# Altium schematic symbol library PCB_Project.SCHLIB: 7 symbols
Pins are listed as number, name and electrical type; pins without a type are passive.

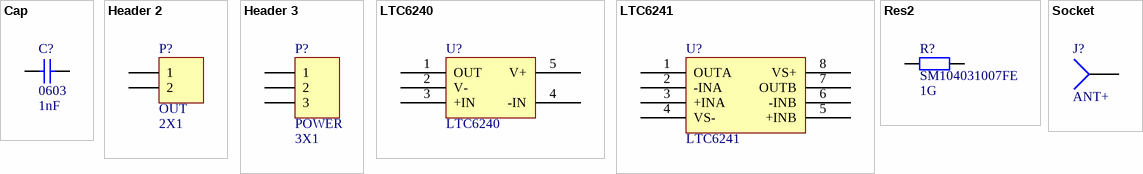
[diagram p0: symbols Cap to Socket]

## Cap
designator C?, comment 0603  value 1nF
Capacitor
footprint 1608[0603] (Chip Capacitor, Body 1.6x0.8mm, IPC High Density)
pins: 1, 2

## Header 2
designator P?, comment OUT  value 2X1
Header, 2-Pin
footprint HDR1X2 (Connector; Header; 2 Position)
pins: 1, 2

## Header 3
designator P?, comment POWER  value 3X1
Header, 3-Pin
footprint HDR1X3 (Connector; Header; 3 Position)
pins: 1, 2, 3

## LTC6240
designator U?
low noise jfet opamp
footprint LTC6240_SOT23 (SOT23, 5-Leads, Body 2,9x2,8mm (max), Pitch 0,95mm, IPC Medium Density)
pins: 1 OUT, 2 V-, 3 +IN, 4 -IN, 5 V+

## LTC6241
designator U?
low noise, high input impedance opamp
footprint LTC6241_SOIC8 (SOIC, 8-Leads, Body 5,0x4,0mm (max), Pitch 1,27mm, IPC Medium Density)
pins: 1 OUTA, 2 -INA, 3 +INA, 4 VS-, 5 +INB, 6 -INB, 7 OUTB, 8 VS+

## Res2
designator R?, comment SM104031007FE  value 1G
Resistor
footprint OHMITE_SM104031007FE_ThroughHoleResistor
pins: 1, 2

## Socket
designator J?, comment ANT+
Socket
footprint PIN1 (Connector; Socket)
pins: 1